# Altium footprint library XH250P 白色连接器.PcbLib: 26 footprints (part 2 of 2)
Each footprint in its own frame and in the unit in brackets; x right, y up, seen from the top. Pads: shape width x height; smd on the part's side, far side on the other; paste and mask are expansions set on the pad; w line width, h text height; cw(c..) or ccw(c..) is an arc to the next point about the centre after c.
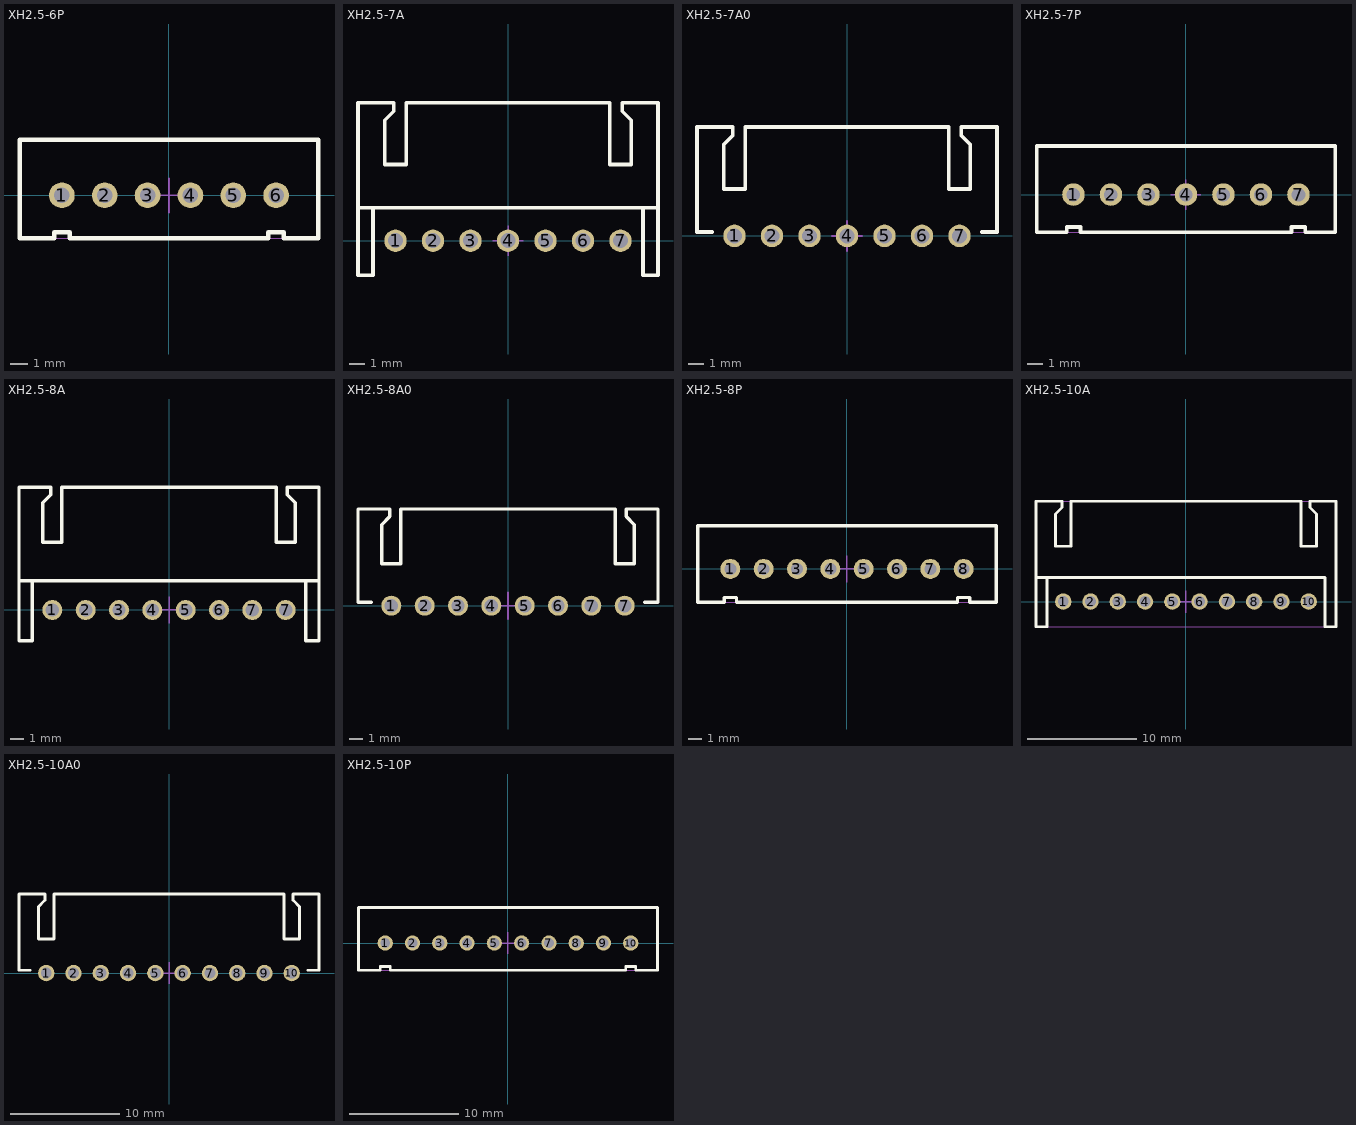
[diagram p1: the footprints below, top view; thin cyan lines are the x and y axes]

## XH2.5-6P [mm] "JST XH白色座"
height 7
pads (6):
  round 1.5 hole 0.9: 1(-6.25,0) 2(-3.75,0) 3(-1.25,0) 4(1.25,0) 5(3.75,0) 6(6.25,0)
Top Overlay:
  lines w0.254: -8.7,-2.513 -8.7,3.237 8.7,3.237 8.7,-2.513 6.702,-2.513 6.702,-2.158 5.787,-2.158 5.787,-2.513 -5.787,-2.513 -5.787,-2.158 -6.702,-2.158 -6.702,-2.513 -8.7,-2.513
Mechanical 13:
  lines w0.05: -8.75,-2.5 -8.75,3.25 8.75,3.25 8.75,-2.5 -8.75,-2.5
Mechanical 15:
  lines w0.1: -1,0 1,0 ; 0,-1 0,1
3D body: height 7.05, standoff -3.35, extent -8.75,-2.5 8.75,3.25

## XH2.5-7A [mm] "浙江合业电子"
height 5.75
pads (7):
  round 1.5 hole 1: 1(-7.5,0) 2(-5,0) 3(-2.5,0) 4(0,0) 5(2.5,0) 6(5,0) 7(7.5,0)
Top Overlay:
  lines w0.254: -10,2.2 10,2.2 ; -9,2.193 -9,-2.3 -10,-2.3 -10,9.2 -7.612,9.2 -7.612,8.637 -8.217,8.032 -8.217,5.085 -6.789,5.085 -6.789,9.2 6.789,9.2 6.789,5.085 8.217,5.085 8.217,8.032 7.612,8.637 7.612,9.2 10,9.2 10,-2.3 9,-2.3 9,2.181
Mechanical 15:
  lines w0.1: -1,0 1,0 ; 0,-1 0,1
3D body: height 5.9, standoff -2.85, extent -10,-2.311 10.005,9.189

## XH2.5-7A0 [mm] "浙江合业电子"
height 5.75
pads (7):
  round 1.5 hole 1: 1(-7.5,0) 2(-5,0) 3(-2.5,0) 4(0,0) 5(2.5,0) 6(5,0) 7(7.5,0)
Top Overlay:
  lines w0.254: -9,0.25 -10,0.25 -10,7.25 -7.612,7.25 -7.612,6.687 -8.217,6.082 -8.217,3.135 -6.789,3.135 -6.789,7.25 6.789,7.25 6.789,3.135 8.217,3.135 8.217,6.082 7.612,6.687 7.612,7.25 10,7.25 10,0.25 9,0.25
Mechanical 15:
  lines w0.127: -1,0 0,0 ; 0,-1 0,0 ; 0,1 0,0 ; 1,0 0,0

## XH2.5-7P [mm] "JST XH白色座"
height 7
pads (7):
  round 1.5 hole 0.9: 1(-7.5,0) 2(-5,0) 3(-2.5,0) 4(0,0) 5(2.5,0) 6(5,0) 7(7.5,0)
Top Overlay:
  lines w0.254: -9.95,-2.513 -9.95,3.237 9.95,3.237 9.95,-2.513 7.952,-2.513 7.952,-2.158 7.037,-2.158 7.037,-2.513 -7.037,-2.513 -7.037,-2.158 -7.952,-2.158 -7.952,-2.513 -9.95,-2.513
Mechanical 13:
  lines w0.05: -10,-2.5 -10,3.25 10,3.25 10,-2.5 -10,-2.5
Mechanical 15:
  lines w0.1: -1,0 1,0 ; 0,-1 0,1
3D body: height 7.05, standoff -3.35, extent -10,-2.5 10,3.25

## XH2.5-8A [mm] "浙江合业电子"
height 5.75
pads (8):
  round 1.5 hole 1: 1(-8.75,0) 2(-6.25,0) 3(-3.75,0) 4(-1.25,0) 5(1.25,0) 6(3.75,0) 7(6.25,0) 7(8.75,0)
Top Overlay:
  lines w0.254: -11.25,2.2 11.25,2.2 ; -10.25,2.193 -10.25,-2.3 -11.25,-2.3 -11.25,9.2 -8.862,9.2 -8.862,8.637 -9.467,8.032 -9.467,5.085 -8.039,5.085 -8.039,9.2 8.039,9.2 8.039,5.085 9.467,5.085 9.467,8.032 8.862,8.637 8.862,9.2 11.25,9.2 11.25,-2.3 10.25,-2.3 10.25,2.181
Mechanical 15:
  lines w0.1: -1,0 1,0 ; 0,-1 0,1
3D body: height 5.9, standoff -2.85, extent -11.25,-2.311 11.255,9.189

## XH2.5-8A0 [mm] "浙江合业电子"
height 5.75
pads (8):
  round 1.5 hole 1: 1(-8.75,0) 2(-6.25,0) 3(-3.75,0) 4(-1.25,0) 5(1.25,0) 6(3.75,0) 7(6.25,0) 7(8.75,0)
Top Overlay:
  lines w0.254: -10.25,0.25 -11.25,0.25 -11.25,7.25 -8.862,7.25 -8.862,6.687 -9.467,6.082 -9.467,3.135 -8.039,3.135 -8.039,7.25 8.039,7.25 8.039,3.135 9.467,3.135 9.467,6.082 8.862,6.687 8.862,7.25 11.25,7.25 11.25,0.25 10.25,0.25
Mechanical 15:
  lines w0.127: -1,0 0,0 ; 0,-1 0,0 ; 0,1 0,0 ; 1,0 0,0

## XH2.5-8P [mm] "JST XH白色座"
height 7
pads (8):
  round 1.5 hole 0.9: 1(-8.75,0) 2(-6.25,0) 3(-3.75,0) 4(-1.25,0) 5(1.25,0) 6(3.75,0) 7(6.25,0) 8(8.75,0)
Top Overlay:
  lines w0.254: -11.2,-2.5 -11.2,3.25 11.2,3.25 11.2,-2.5 9.202,-2.5 9.202,-2.144 8.287,-2.144 8.287,-2.5 -8.287,-2.5 -8.287,-2.144 -9.202,-2.144 -9.202,-2.5 -11.2,-2.5
Mechanical 13:
  lines w0.05: -11.25,-2.512 -11.25,3.238 11.25,3.238 11.25,-2.512 -11.25,-2.512
Mechanical 15:
  lines w0.1: -1,0 1,0 ; 0,-1 0,1
3D body: height 7.05, standoff -3.35, extent -11.25,-2.512 11.25,3.238

## XH2.5-10A [mm] "浙江合业电子"
height 5.75
pads (10):
  round 1.5 hole 1: 1(-11.25,0) 2(-8.75,0) 3(-6.25,0) 4(-3.75,0) 5(-1.25,0) 6(1.25,0) 7(3.75,0) 8(6.25,0) 9(8.75,0) 10(11.25,0)
Top Overlay:
  lines w0.254: -13.75,2.2 12.75,2.2 ; -12.75,2.193 -12.75,-2.3 -13.75,-2.3 -13.75,9.2 -11.362,9.2 -11.362,8.637 -11.967,8.032 -11.967,5.085 -10.539,5.085 -10.539,9.2 10.539,9.2 10.539,5.085 11.967,5.085 11.967,8.032 11.362,8.637 11.362,9.2 13.75,9.2 13.75,-2.3 12.75,-2.3 12.75,2.181
Mechanical 13:
  lines w0.1: -13.75,-2.305 13.755,-2.305 13.755,9.195 -13.75,9.195 -13.75,-2.305
Mechanical 15:
  lines w0.127: -1,0 0,0 ; 0,-1 0,0 ; 0,1 0,0 ; 1,0 0,0
3D body: height 5.9, standoff -2.85, extent -13.75,-2.305 13.755,9.195

## XH2.5-10A0 [mm] "浙江合业电子"
height 5.75
pads (10):
  round 1.5 hole 1: 1(-11.25,0) 2(-8.75,0) 3(-6.25,0) 4(-3.75,0) 5(-1.25,0) 6(1.25,0) 7(3.75,0) 8(6.25,0) 9(8.75,0) 10(11.25,0)
Top Overlay:
  lines w0.254: -12.75,0.25 -13.75,0.25 -13.75,7.25 -11.362,7.25 -11.362,6.687 -11.967,6.082 -11.967,3.135 -10.539,3.135 -10.539,7.25 10.539,7.25 10.539,3.135 11.967,3.135 11.967,6.082 11.362,6.687 11.362,7.25 13.75,7.25 13.75,0.25 12.75,0.25
Mechanical 15:
  lines w0.127: -1,0 0,0 ; 0,-1 0,0 ; 0,1 0,0 ; 1,0 0,0

## XH2.5-10P [mm] "JST XH白色座"
height 7
pads (10):
  round 1.4 hole 0.9: 1(-11.25,0) 2(-8.75,0) 3(-6.25,0) 4(-3.75,0) 5(-1.25,0) 6(1.25,0) 7(3.75,0) 8(6.25,0) 9(8.75,0) 10(11.25,0)
Top Overlay:
  lines w0.254: -13.7,-2.5 -11.702,-2.5 -11.702,-2.144 -10.787,-2.144 -10.787,-2.5 10.787,-2.5 10.787,-2.144 11.702,-2.144 11.702,-2.5 13.7,-2.5 13.7,3.25 -13.7,3.25 -13.7,-2.5
Mechanical 13:
  lines w0.1: -13.75,-2.504 -13.75,3.251 13.75,3.251 13.75,-2.504 -13.75,-2.504
Mechanical 15:
  lines w0.127: -1,0 0,0 ; 0,-1 0,0 ; 0,1 0,0 ; 1,0 0,0
3D body: height 7.05, standoff -3.35, extent -13.75,-2.504 13.75,3.251